# EAGLE library part INA213 (library misc)
Current Sense Amplifier Circuit - SC-70-6
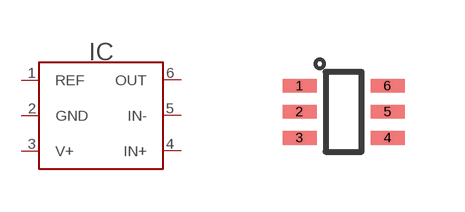
[diagram p46: symbol with the pads of SC70-6; footprint SC70-6]

Designator prefix IC

## INA213-SC70-6 (DIGIKEY#: 296-26072-1-ND; DIGIREEL#: 296-26072-6-ND; GAIN: 50V/V; LCSC#: C129346; MANF: Texas Instruments; MANF#: INA213AIDCKR)  [SC70-6]
1  REF
2  GND
3  V+
4  IN+
5  IN-
6  OUT

## Footprint SC70-6 (pad centres in mm)
https://datasheet.lcsc.com/szlcsc/1810010811_Texas-Instruments-INA213AIDCKR_C129346.pdf 3D model <https://grabcad.com/library/sc70-packages-1>
smd 0.85 x 0.35: 1 -1.1,0.65; 2 -1.1,0; 3 -1.1,-0.65; 4 1.1,-0.65; 5 1.1,0; 6 1.1,0.65